# Altium schematic symbol library Symbols.SchLib: 1 symbol
Pins are listed as number, name and electrical type; pins without a type are passive.

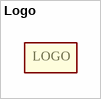
[diagram p0: symbol Logo]

## Logo
designator M?  (value not drawn)  (no BOM)
footprint LOGO_9x6mm
text: LOGO